# Altium schematic symbol library 1SMA5918BT3G.SchLib: 1 symbol
Pins are listed as number, name and electrical type; pins without a type are passive.

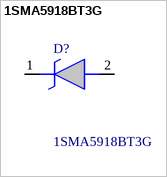
[diagram p0: symbol 1SMA5918BT3G]

## 1SMA5918BT3G
designator D?
Diode Zener 5.1V 5% 1.5W SMA ON Semiconductor 1SMA5918BT3G Zener Diode, 5.1V 5% 0.5 W SMT 2-Pin SMA; Manufacturer_Name: onsemi; Geometry.Height: 2.2mm; Manufacturer_Part_Number: 1SMA5918BT3G; Mouser Part Number: 863-1SMA5918BT3G; Mouser Price/Stock: https://www.mouser.co.uk/ProductDetail/onsemi/1SMA5918BT3G?qs=y2kkmE52mdPbjBOutLmedg%3D%3D; Arrow Part Number: 1SMA5918BT3G; Arrow Price/Stock: https://www.arrow.com/en/products/1sma5918bt3g/on-semiconductor; Datasheet Link: http://www.onsemi.com/pub/Collateral/1SMA5913BT3-D.PDF
footprint DIOM5226X220N
pins: 1 K, 2 A